# Altium integrated library 7B-10.000MEEQ-T.IntLib: 1 symbol
Pins are listed as number, name and electrical type; pins without a type are passive.

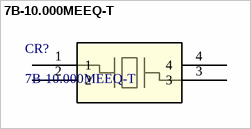
[diagram p0: symbol 7B-10.000MEEQ-T]

## 7B-10.000MEEQ-T
designator CR?
No Description Available; Vendor: TXC; Built_By: EMA_UL_Team; Type: DEV; Manufacturer_Part_Number: 7B-10.000MEEQ-T; Copyright: Copyright (C) 2018 Accelerated Designs. All rights reserved; RefDes: RefDes
footprint CRYSTAL_TXC_7B
pins: 1, 2, 3, 4